# EAGLE library part 24* (library nerd100)
Serial EEPROM I2C
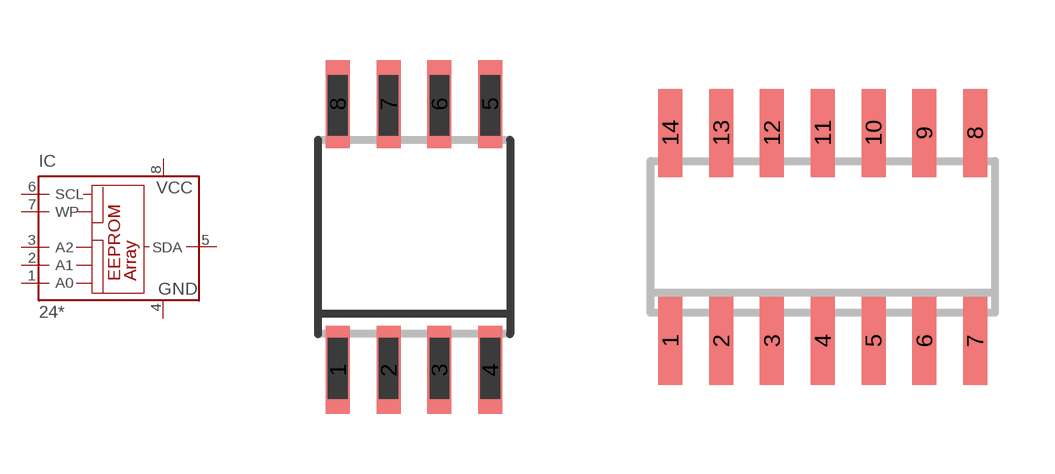
[diagram p2: symbol with the pads of SO-08M; footprints SO-08M, SO-14]

Designator prefix IC

## 24AA01SM, 24AA02SM, 24AA04SM, 24AA08SM, 24AA128SM, 24AA16SM, 24AA32ASM, 24C01ASM, 24C02ASM, 24C04ASM, 24C08BSM, 24C32ASM, 24C64SM, 24CL04BSM, 24LC08BSM, 24LC128SM, 24LC16BSM, 24LC32ASM, 24LC64SM  [SO-08M]
1  A0  in
2  A1  in
3  A2  in
4  GND  pwr
5  SDA
6  SCL  in
7  WP  in
8  VCC  pwr

## 24AA04SL, 24AA08SL, 24AA16SL, 24C01ASL, 24C02ASL, 24C04ASL, 24C08BSL, 24C16BSL, 24CL04ASL, 24LC08BSL, 24LC16BSL  [SO-14]
2  A0  in
3  A1  in
5  A2  in
6  GND  pwr
9  SDA
10  SCL  in
12  WP  in
13  VCC  pwr

## 24AA01P, 24AA02P, 24AA04P, 24AA08P, 24AA128P, 24AA16P, 24AA256P, 24AA32AP, 24AA64P, 24C01AP, 24C02AP, 24C04AP, 24C08BP, 24C16BP, 24C32AP, 24C64P, 24CL04BP, 24LC01P, 24LC024P, 24LC025P, 24LC04P, 24LC08BP, 24LC128P, 24LC16BP, 24LC256P, 24LC32AP, 24LC64P, 24LCS52P  [DIL8]
Pads as for SO-08M

## 24AA01SN, 24AA02SN, 24AA04SN, 24AA08SN, 24AA128SN, 24AA16SN, 24AA256SN, 24AA32ASN, 24AA64SN, 24C08BSN, 24C16BSN, 24C32ASN, 24CL04BSN, 24LC024SN, 24LC025SN, 24LC08BSN, 24LC128SN, 24LC16BSN, 24LC256SN, 24LC32ASN, 24LC64SN, 24LCS52SN  [SO-08]
Pads as for SO-08M

## 24AA128ST, 24AA64ST, 24C64ST, 24LC024ST, 24LC025ST, 24LC128ST, 24LC64ST, 24LCS52ST  [TSSOP8]
Pads as for SO-08M

## Footprint SO-08M (pad centres in mm)
Small Outline Medium Plastic Gull Wing 207-mil body, package type SM
smd 0.6 x 2.2: 1 -1.905,-3.33; 2 -0.635,-3.33; 3 0.635,-3.33; 4 1.905,-3.33; 5 1.905,3.33; 6 0.635,3.33; 7 -0.635,3.33; 8 -1.905,3.33

## Footprint SO-14 (pad centres in mm)
Small Outline Narrow Plastic Gull Wing 150-mil body, package type SL
smd 0.6 x 2.2: 1 -3.81,-2.6; 2 -2.54,-2.6; 3 -1.27,-2.6; 4 0,-2.6; 5 1.27,-2.6; 6 2.54,-2.6; 7 3.81,-2.6; 8 3.81,2.6; 9 2.54,2.6; 10 1.27,2.6; 11 0,2.6; 12 -1.27,2.6; 13 -2.54,2.6; 14 -3.81,2.6

## Footprint DIL8 (pad centres in mm)
Dual In Line package type P
drill 0.813 long: 1 -3.81,-3.81; 2 -1.27,-3.81; 3 1.27,-3.81; 4 3.81,-3.81; 5 3.81,3.81; 6 1.27,3.81; 7 -1.27,3.81; 8 -3.81,3.81

## Footprint SO-08 (pad centres in mm)
Small Outline Narrow Plastic Gull Wing 150-mil body, package type SN
smd 0.6 x 2.2: 1 -1.905,-2.6; 2 -0.635,-2.6; 3 0.635,-2.6; 4 1.905,-2.6; 5 1.905,2.6; 6 0.635,2.6; 7 -0.635,2.6; 8 -1.905,2.6

## Footprint TSSOP8 (pad centres in mm)
Thin Shrink Small Outline Package package type ST
smd 0.35 x 1.2: 1 -0.975,-2.925; 2 -0.325,-2.925; 3 0.325,-2.925; 4 0.975,-2.925; 5 0.975,2.925; 6 0.325,2.925; 7 -0.325,2.925; 8 -0.975,2.925